# Altium schematic symbol library 2220Y1K00474KETWS2.SchLib: 1 symbol
Pins are listed as number, name and electrical type; pins without a type are passive.

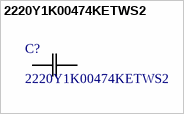
[diagram p0: symbol 2220Y1K00474KETWS2]

## 2220Y1K00474KETWS2
designator C?
Description; Manufacturer_Name: Knowles; Type: Ceramic Capacitors; Copyright: Copyright (C) 2026 Ultra Librarian. All rights reserved.; Manufacturer_Part_Number: 2220Y1K00474KETWS2
footprint CAP_2220Y_KNO
pins: 1, 2